# Altium footprint library MT-Sources.PcbLib: 30 footprints (part 1 of 2)
Each footprint in its own frame and in the unit in brackets; x right, y up, seen from the top. Pads: shape width x height; smd on the part's side, far side on the other; paste and mask are expansions set on the pad; w line width, h text height; cw(c..) or ccw(c..) is an arc to the next point about the centre after c.
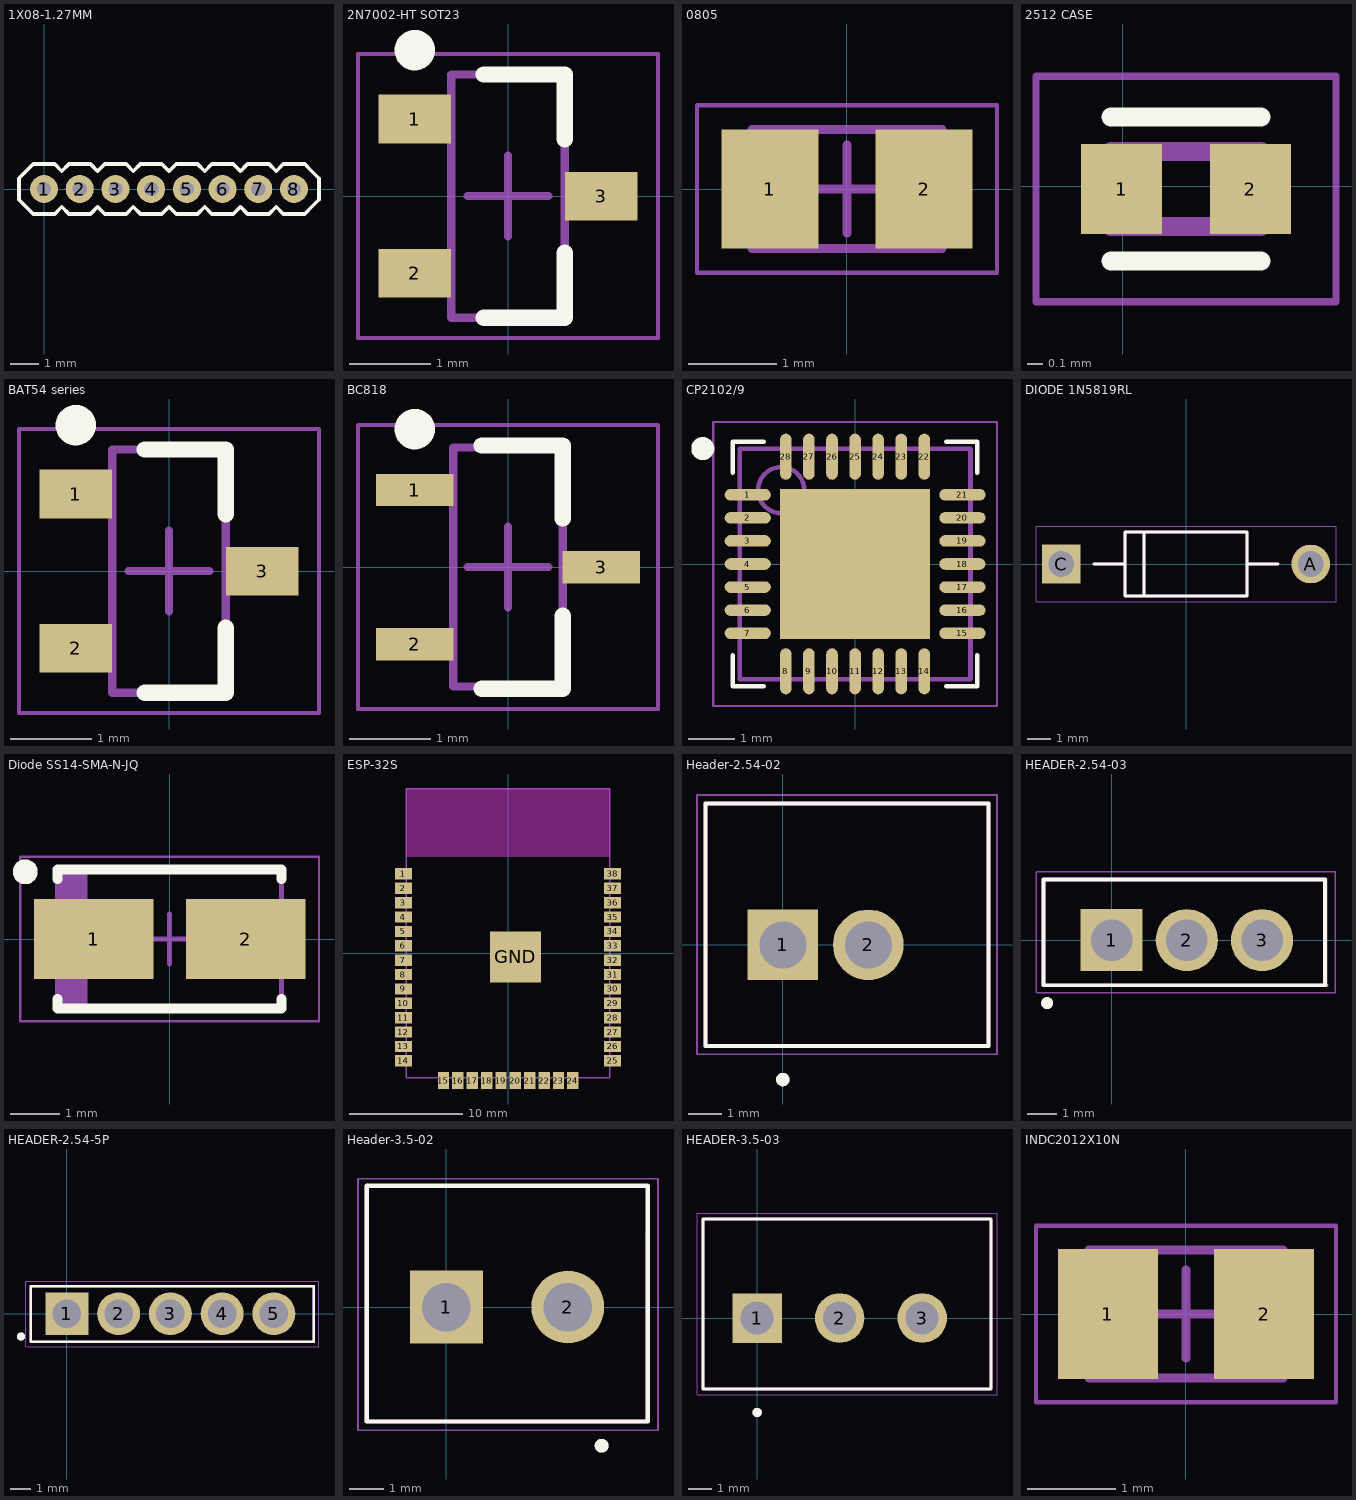
[diagram p0: the footprints below, top view; thin cyan lines are the x and y axes]

## 1X08-1.27MM [mm] "1X08-1.27MM"
pads (8):
  round 1 hole 0.508: 1(0,0) 2(1.27,0) 3(2.54,0) 4(3.81,0) 5(5.08,0) 6(6.35,0) 7(7.62,0) 8(8.89,0)
Top Overlay:
  lines w0.127: 9.775,-0.385 9.525,-0.635 9.271,-0.889 8.509,-0.889 8.255,-0.635 8.001,-0.889 7.239,-0.889 6.985,-0.635 6.731,-0.889 5.969,-0.889 5.715,-0.635 5.461,-0.889 4.699,-0.889 4.445,-0.635 4.191,-0.889 3.429,-0.889 3.175,-0.635 2.921,-0.889 2.159,-0.889 1.905,-0.635 1.651,-0.889 0.889,-0.889 0.635,-0.635 0.381,-0.889 -0.381,-0.889 -0.889,-0.381 -0.889,0.381 -0.381,0.889 0.381,0.889 0.635,0.635 0.889,0.889 1.651,0.889 1.905,0.635 2.159,0.889 2.921,0.889 3.175,0.635 3.429,0.889 4.191,0.889 4.445,0.635 4.699,0.889 5.461,0.889 5.715,0.635 5.969,0.889 6.731,0.889 6.985,0.635 7.239,0.889 8.001,0.889 8.255,0.635 8.509,0.889 9.271,0.889 9.525,0.635 9.775,0.385 ; 9.779,-0.381 9.779,0.381

## 2N7002-HT SOT23 [mm] "2N7002-HT - MOSFET DIS.200mA 60V N-CH SOT23 SMT"
height 1.1
pads (3):
  rect 0.9x0.6 smd: 1(-1.15,0.95) 2(-1.15,-0.95) 3(1.15,0)
Top Overlay:
  circle w0.25: c-1.15,1.8 r0.125
  lines w0.2: -0.3,-1.5 0.7,-1.5 0.7,-0.7 ; -0.3,1.5 0.7,1.5 0.7,0.7
Mechanical 13:
  lines w0.1: -0.7,-1.5 -0.7,1.5 0.7,1.5 0.7,-1.5 -0.7,-1.5
Mechanical 15:
  lines w0.05: -1.85,-1.75 -1.85,1.75 1.85,1.75 1.85,-1.75 -1.85,-1.75
  lines w0.1: -0.5,0 0.5,0 ; 0,-0.5 0,0.5
3D body: height 1.1, standoff 0.1, extent -0.7,-1.5 0.7,1.5

## 0805 [mm] "Chip Resistor, 2-Leads, Body 2,00x1,23mm, IPC Medium Density"
height 0.65
pads (2):
  rect 1.1x1.35 smd: 1(-0.875,0) 2(0.875,0)
Mechanical 13:
  lines w0.1: -1.075,-0.675 -1.075,0.675 1.075,0.675 1.075,-0.675 -1.075,-0.675
Mechanical 15:
  lines w0.05: -1.7,-0.95 -1.7,0.95 1.7,0.95 1.7,-0.95 -1.7,-0.95
  lines w0.1: -0.5,0 0.5,0 ; 0,-0.5 0,0.5
3D body: height 0.65, standoff 0, extent -0.675,-0.675 0.675,0.675
3D body: height 0.65, standoff 0, extent -1.075,-0.675 -0.675,0.675
3D body: height 0.65, standoff 0, extent 0.675,-0.675 1.075,0.675

## 2512 CASE [mm]
pads (2):
  rect 0.54x0.6 smd: 1(-0.008,-0.019) 2(0.852,-0.019)
Top Overlay:
  lines w0.127: -0.078,-0.499 0.922,-0.499 ; -0.078,0.461 0.922,0.461
Mechanical 13:
  region: 0.172,-0.27 -0.079,-0.27 -0.079,0.231 0.172,0.231
  region: 0.922,-0.269 0.672,-0.269 0.672,0.231 0.922,0.231
  lines w0.127: -0.078,-0.269 0.922,-0.269 0.922,0.231 -0.078,0.231 -0.078,-0.269
Mechanical 15:
  lines w0.05: -0.578,-0.769 1.422,-0.769 1.422,0.731 -0.578,0.731 -0.578,-0.769

## BAT54 series [mm] "Schottky barrier diodes SOT23, 3-Leads,"
height 1.1
pads (3):
  rect 0.9x0.6 smd: 1(-1.15,0.95) 2(-1.15,-0.95) 3(1.15,0)
Top Overlay:
  circle w0.25: c-1.15,1.8 r0.125
  lines w0.2: -0.3,-1.5 0.7,-1.5 0.7,-0.7 ; -0.3,1.5 0.7,1.5 0.7,0.7
Mechanical 13:
  lines w0.1: -0.7,-1.5 0.7,-1.5 0.7,1.5 -0.7,1.5 -0.7,-1.5
Mechanical 15:
  lines w0.05: -1.85,-1.75 1.85,-1.75 1.85,1.75 -1.85,1.75 -1.85,-1.75
  lines w0.1: -0.5,0 0.5,0 ; 0,-0.5 0,0.5
3D body: height 1.1, standoff 0.05, extent -0.7,-1.5 0.7,1.5

## BC818 [mm] "SOT23127P600-8N"
height 1.1
pads (3):
  rect 0.95x0.4 smd: 1(-1.15,0.95) 2(-1.15,-0.95) 3(1.15,0)
Top Overlay:
  circle w0.25: c-1.15,1.7 r0.125
  lines w0.2: -0.325,-1.5 0.675,-1.5 0.675,-0.6 ; -0.325,1.5 0.675,1.5 0.675,0.6
Mechanical 13:
  lines w0.1: -0.675,-1.475 -0.675,1.475 0.675,1.475 0.675,-1.475 -0.675,-1.475
Mechanical 15:
  lines w0.05: -1.85,-1.75 -1.85,1.75 1.85,1.75 1.85,-1.75 -1.85,-1.75
  lines w0.1: -0.5,0 0.5,0 ; 0,-0.5 0,0.5
3D body: height 1.1, standoff 0.02, extent -0.675,-1.475 0.675,1.475

## CP2102/9 [mm] "SINGLE-CHIP USB-TO-UART BRIDGE QFN, 28-Leads, Body 5,00x5,00mm, Pitch 0,50mm, Thermal Pad 3,25x3,25mm, IPC Medium Density"
height 1
pads (29):
  oval 1x0.25 smd: 1(-2.325,1.5) 2(-2.325,1) 3(-2.325,0.5) 4(-2.325,0) 5(-2.325,-0.5) 6(-2.325,-1) 7(-2.325,-1.5) 15(2.325,-1.5) 16(2.325,-1) 17(2.325,-0.5) 18(2.325,0) 19(2.325,0.5) 20(2.325,1) 21(2.325,1.5)
  oval 0.25x1 smd: 8(-1.5,-2.325) 9(-1,-2.325) 10(-0.5,-2.325) 11(0,-2.325) 12(0.5,-2.325) 13(1,-2.325) 14(1.5,-2.325) 22(1.5,2.325) 23(1,2.325) 24(0.5,2.325) 25(0,2.325) 26(-0.5,2.325) 27(-1,2.325) 28(-1.5,2.325)
  rect 3.25x3.25 smd mask+0.102: ""(0,0)
Top Overlay:
  circle w0.25: c-3.3,2.5 r0.125
  lines w0.1: -2.65,-1.975 -2.65,-2.65 -1.975,-2.65 ; -2.65,1.975 -2.65,2.65 -1.975,2.65 ; 1.975,-2.65 2.65,-2.65 2.65,-1.975 ; 1.975,2.65 2.65,2.65 2.65,1.975
Mechanical 13:
  circle w0.1: c-1.6,1.6 r0.5
  lines w0.1: -2.5,-2.5 2.5,-2.5 2.5,2.5 -2.5,2.5 -2.5,-2.5
Mechanical 15:
  lines w0.05: -3.075,-3.075 3.075,-3.075 3.075,3.075 -3.075,3.075 -3.075,-3.075
  lines w0.1: -0.5,0 0.5,0 ; 0,-0.5 0,0.5
3D body: height 1, standoff 0, extent -2.5,-2.5 2.5,2.5

## DIODE 1N5819RL [mm] "DIODE SCHOTTKY 1A 40V DO41 THT"
pads (2):
  round 1.65 hole 1.1: A(5.3,0)
  rect 1.65x1.65 hole 1.1: C(-5.3,0)
Top Overlay:
  lines w0.127: -3.9,0 -2.6,0 ; 3.9,0 2.6,0 ; -2.6,0 -2.6,-1.35 -1.775,-1.35 ; -2.6,0 -2.6,1.35 -1.775,1.35 ; -1.775,-1.35 -1.775,1.35 ; -1.775,-1.35 2.6,-1.35 2.6,0 ; -1.775,1.35 2.6,1.35 2.6,0
Mechanical 13:
  lines w0.127: -3.9,0 -2.6,0 ; 3.9,0 2.6,0 ; -2.6,0 -2.6,-1.35 -1.775,-1.35 ; -2.6,0 -2.6,1.35 -1.775,1.35 ; -1.775,-1.35 -1.775,1.35 ; -1.775,-1.35 2.6,-1.35 2.6,0 ; -1.775,1.35 2.6,1.35 2.6,0
Mechanical 15:
  lines w0.05: -6.375,-1.6 -6.375,1.6 6.375,1.6 6.375,-1.6 -6.375,-1.6

## Diode SS14-SMA-N-JQ [mm] "DIODE SCHOTTKY 1A 40V DO-214AC SMA CASE"
height 2.42
pads (2):
  rect 2.4x1.6 smd: 1(-1.525,0) 2(1.525,0)
Top Overlay:
  circle w0.25: c-2.9,1.35 r0.125
  lines w0.2: -2.25,-1.2 -2.25,-1.4 2.25,-1.4 2.25,-1.2 ; -2.25,1.2 -2.25,1.4 2.25,1.4 2.25,1.2
Mechanical 13:
  rectangle: -2.25,-1.4 -1.645,1.4
  lines w0.1: -2.25,-1.4 2.25,-1.4 2.25,1.4 -2.25,1.4 -2.25,-1.4
Mechanical 15:
  lines w0.05: -3,-1.65 3,-1.65 3,1.65 -3,1.65 -3,-1.65
  lines w0.1: -0.5,0 0.5,0 ; 0,-0.5 0,0.5
3D body: height 2.42, standoff 0, extent -2.25,-1.4 2.25,1.4

## ESP-32S [mm]
pads (39):
  rect 1.5x1 smd: 1(-9.25,7) 2(-9.25,5.73) 3(-9.25,4.46) 4(-9.25,3.19) 5(-9.25,1.92) 6(-9.25,0.65) 7(-9.25,-0.62) 8(-9.25,-1.89) 9(-9.25,-3.16) 10(-9.25,-4.43) 11(-9.25,-5.7) 12(-9.25,-6.97) 13(-9.25,-8.24) 14(-9.25,-9.51) 25(9.25,-9.51) 26(9.25,-8.24) 27(9.25,-6.97) 28(9.25,-5.7) 29(9.25,-4.43) 30(9.25,-3.16) 31(9.25,-1.89) 32(9.25,-0.62) 33(9.25,0.65) 34(9.25,1.92) 35(9.25,3.19) 36(9.25,4.46) 37(9.25,5.73) 38(9.25,7)
  rect 1x1.5 smd: 15(-5.7,-11.25) 16(-4.43,-11.25) 17(-3.16,-11.25) 18(-1.89,-11.25) 19(-0.62,-11.25) 20(0.65,-11.25) 21(1.92,-11.25) 22(3.19,-11.25) 23(4.46,-11.25) 24(5.73,-11.25)
  rect 4.5x4.5 smd: GND(0.68,-0.33)
Keep-Out Layer:
  region: 9,8.5 -9,8.5 -9,14.5 9,14.5
  region: 9,8.5 -9,8.5 -9,14.5 9,14.5
Mechanical 13:
  lines w0.127: -9,-11 -9,14.5 9,14.5 9,-11 -9,-11

## Header-2.54-02 [mm]
pads (2):
  rect 2.1x2.1 hole 1.4: 1(0,0)
  round 2.1 hole 1.4: 2(2.54,0)
Top Overlay:
  circle w0.2: c0,-4 r0.1
  lines w0.127: -2.3,-3 -2.3,4.2 6.11,4.2 6.11,-3 -2.3,-3
Mechanical 13:
  circle w0.2: c0,-4 r0.1
  lines w0.127: -2.3,-3 -2.3,4.2 6.11,4.2 6.11,-3 -2.3,-3
Mechanical 15:
  lines w0.05: -2.55,-3.25 6.36,-3.25 6.36,4.45 -2.55,4.45 -2.55,-3.25

## HEADER-2.54-03 [mm]
pads (3):
  rect 2.1x2.1 hole 1.4: 1(0,0)
  round 2.1 hole 1.4: 2(2.54,0) 3(5.08,0)
Top Overlay:
  circle w0.2: c-2.175,-2.125 r0.1
  lines w0.127: -2.3,-1.525 -2.3,2.05 ; -2.275,-1.525 7.225,-1.525 ; -2.275,2.05 7.2,2.05 7.2,1.575 7.2,1.45 7.2,0.1 7.2,-1.525
Mechanical 13:
  circle w0.2: c-2.175,-2.125 r0.1
  lines w0.127: -2.3,-1.525 -2.3,2.05 ; -2.275,-1.525 7.25,-1.525 ; -2.275,2.05 7.225,2.05 7.225,-1.525
Mechanical 15:
  lines w0.05: -2.55,-1.775 -2.55,2.3 ; -2.525,-1.775 7.575,-1.775 ; -2.525,2.3 7.575,2.3 ; 7.55,-1.75 7.55,-1.3 7.55,-1.123 ; 7.551,0.178 7.551,0.587 ; 7.55,0.6 7.55,2.3 ; 7.554,-1.125 7.554,-0.57 7.554,-0.073 7.554,0.175

## HEADER-2.54-5P [mm] "klemens"
pads (5):
  rect 2.1x2.1 hole 1.4: 1(0,0)
  round 2.1 hole 1.4: 2(2.54,0) 3(5.08,0) 4(7.62,0) 5(10.16,0)
Top Overlay:
  circle w0.2: c-2.25,-1.125 r0.1
  lines w0.127: -1.765,-1.375 12.125,-1.375 12.125,1.35 -1.765,1.35 -1.765,-1.375
Mechanical 13:
  circle w0.2: c-2.25,-1.125 r0.1
  lines w0.127: -1.765,-1.375 -1.765,1.35 12.125,1.35 12.125,-1.375 -1.765,-1.375
Mechanical 15:
  lines w0.05: -2.015,-1.625 -2.015,1.6 ; -1.99,1.6 12.375,1.6 12.375,-1.625 -1.985,-1.625

## Header-3.5-02 [mm] "klemens"
pads (2):
  rect 2.1x2.1 hole 1.4: 1(0,0)
  round 2.1 hole 1.4: 2(3.5,0)
Top Overlay:
  circle w0.2: c4.475,-4 r0.1
  lines w0.127: 5.796,3.5 5.348,3.5 4.452,3.5 4.004,3.5 -2.3,3.5 -2.3,-3.3 5.8,-3.3 5.8,3.5
Mechanical 13:
  circle w0.2: c4.475,-4 r0.1
  lines w0.127: -2.3,3.5 -2.3,-3.3 5.8,-3.3 5.8,2.1
Mechanical 15:
  lines w0.05: -2.55,-3.55 -2.55,3.7 6.1,3.7 6.1,-3.55 -2.55,-3.55

## HEADER-3.5-03 [mm] "klemens"
pads (3):
  rect 2.1x2.1 hole 1.4: 1(0,0)
  round 2.1 hole 1.4: 2(3.5,0) 3(7,0)
Top Overlay:
  circle w0.2: c0,-4 r0.1
  lines w0.127: -2.3,-3 -2.3,4.2 9.92,4.2 9.92,2.4 9.92,-1.2 9.92,-3 -2.3,-3
Mechanical 13:
  circle w0.2: c0,-4 r0.1
  lines w0.127: -2.3,-3 -2.3,4.2 9.925,4.2 9.925,-3 -2.3,-3
Mechanical 15:
  lines w0.05: -2.55,-3.25 10.17,-3.25 10.17,4.45 -2.55,4.45 -2.55,-3.25

## INDC2012X10N [mm] "Chip Inductor, 2-Leads, Body 2,00x1,25mm, IPC Medium Density"
height 1
pads (2):
  rect 1.13x1.47 smd: 1(-0.885,0) 2(0.885,0)
Mechanical 13:
  lines w0.1: -1.1,-0.725 -1.1,0.725 1.1,0.725 1.1,-0.725 -1.1,-0.725
Mechanical 15:
  lines w0.05: -1.7,-1 -1.7,1 1.7,1 1.7,-1 -1.7,-1
  lines w0.1: -0.5,0 0.5,0 ; 0,-0.5 0,0.5
3D body: height 1, standoff 0, extent -0.6,-0.725 0.6,0.725
3D body: height 1, standoff 0, extent -1.1,-0.725 -0.6,0.725
3D body: height 1, standoff 0, extent 0.6,-0.725 1.1,0.725